# EAGLE library part TRACO-DR (library FHD-POWER)
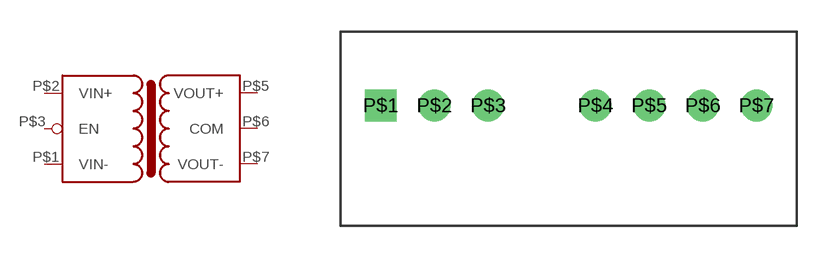
[diagram p1: symbol with the pads of TRACO-DCDC-SIP8; footprint TRACO-DCDC-SIP8]

Designator prefix -

## TRACO-DR  [TRACO-DCDC-SIP8]
P$1  VIN-
P$2  VIN+
P$3  EN
P$5  VOUT+
P$6  COM
P$7  VOUT-

## Footprint TRACO-DCDC-SIP8 (pad centres in mm)
drill 1 square: P$1 -8.89,1.27
drill 1: P$2 -6.35,1.27; P$3 -3.81,1.27; P$4 1.27,1.27; P$5 3.81,1.27; P$6 6.35,1.27; P$7 8.89,1.27